# Altium integrated library WL-SMDC Ceramic mono-color High-power LED waterclear.IntLib: 8 symbols
Pins are listed as number, name and electrical type; pins without a type are passive.

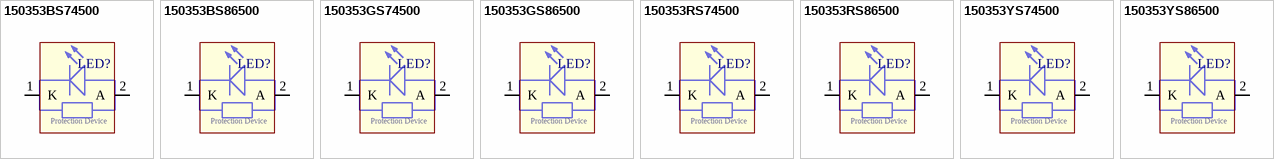
[diagram p0: symbols 150353BS74500 to 150353YS86500]

## 150353BS74500
designator LED?
SMD Ceramic mono-color High-power LED waterclear, WL-SMDC; PartNumber: 150353BS74500; Emitting Color: Blue; Forward voltage (Typ): 3.2V; Reverse Voltage: 5V; Continuous Forward Current: 1000 mA; PackageReference: WL-SMDC 3535 -LP; ComponentLink1Description: Manufacturer URL; ComponentLink1URL: http://www.we-online.com; ComponentLink2Description: Datasheet; ComponentLink2URL: http://katalog.we-online.de/kataloge/eisos/media/pdf/150353BS74500.pdf
footprint WL-SMDC 3535 -LP (LED-SMD ,Body 3.45x3.45mm)
pins: 1 K, 2 A
text: Protection Device

## 150353BS86500
designator LED?
SMD Ceramic mono-color High-power LED waterclear, WL-SMDC; PartNumber: 150353BS86500; Emitting Color: Blue; Forward voltage (Typ): 3.2V; Reverse Voltage: 5V; Continuous Forward Current: 1000 mA; PackageReference: WL-SMDC 3535; ComponentLink1Description: Manufacturer URL; ComponentLink1URL: http://www.we-online.com; ComponentLink2Description: Datasheet; ComponentLink2URL: http://katalog.we-online.de/kataloge/eisos/media/pdf/150353BS86500.pdf
footprint WL-SMDC 3535 (LED-SMD ,Body 3.45x3.45mm)
pins: 1 K, 2 A
text: Protection Device

## 150353GS74500
designator LED?
SMD Ceramic mono-color High-power LED waterclear, WL-SMDC; PartNumber: 150353GS74500; Emitting Color: Green; Forward voltage (Typ): 3.4V; Reverse Voltage: 5V; Continuous Forward Current: 1000 mA; PackageReference: WL-SMDC 3535 -LP; ComponentLink1Description: Manufacturer URL; ComponentLink1URL: http://www.we-online.com; ComponentLink2Description: Datasheet; ComponentLink2URL: http://katalog.we-online.de/kataloge/eisos/media/pdf/150353GS74500.pdf
footprint WL-SMDC 3535 -LP (LED-SMD ,Body 3.45x3.45mm)
pins: 1 K, 2 A
text: Protection Device

## 150353GS86500
designator LED?
SMD Ceramic mono-color High-power LED waterclear, WL-SMDC; PartNumber: 150353GS86500; Emitting Color: Green; Forward voltage (Typ): 3.4V; Reverse Voltage: 5V; Continuous Forward Current: 1000 mA; PackageReference: WL-SMDC 3535; ComponentLink1Description: Manufacturer URL; ComponentLink1URL: http://www.we-online.com; ComponentLink2Description: Datasheet; ComponentLink2URL: http://katalog.we-online.de/kataloge/eisos/media/pdf/150353GS86500.pdf
footprint WL-SMDC 3535 (LED-SMD ,Body 3.45x3.45mm)
pins: 1 K, 2 A
text: Protection Device

## 150353RS74500
designator LED?
SMD Ceramic mono-color High-power LED waterclear, WL-SMDC; PartNumber: 150353RS74500; Emitting Color: Red; Forward voltage (Typ): 2.2V; Reverse Voltage: 5V; Continuous Forward Current: 700 mA; PackageReference: WL-SMDC 3535 -LP; ComponentLink1Description: Manufacturer URL; ComponentLink1URL: http://www.we-online.com; ComponentLink2Description: Datasheet; ComponentLink2URL: http://katalog.we-online.de/kataloge/eisos/media/pdf/150353RS74500.pdf
footprint WL-SMDC 3535 -LP (LED-SMD ,Body 3.45x3.45mm)
pins: 1 K, 2 A
text: Protection Device

## 150353RS86500
designator LED?
SMD Ceramic mono-color High-power LED waterclear, WL-SMDC; PartNumber: 150353RS86500; Emitting Color: Red; Forward voltage (Typ): 2.2V; Reverse Voltage: 5V; Continuous Forward Current: 700 mA; PackageReference: WL-SMDC 3535; ComponentLink1Description: Manufacturer URL; ComponentLink1URL: http://www.we-online.com; ComponentLink2Description: Datasheet; ComponentLink2URL: http://katalog.we-online.de/kataloge/eisos/media/pdf/150353RS86500.pdf
footprint WL-SMDC 3535 (LED-SMD ,Body 3.45x3.45mm)
pins: 1 K, 2 A
text: Protection Device

## 150353YS74500
designator LED?
SMD Ceramic mono-color High-power LED waterclear, WL-SMDC; PartNumber: 150353YS74500; Emitting Color: Yellow; Forward voltage (Typ): 2.2V; Reverse Voltage: 5V; Continuous Forward Current: 700 mA; PackageReference: WL-SMDC 3535 -LP; ComponentLink1Description: Manufacturer URL; ComponentLink1URL: http://www.we-online.com; ComponentLink2Description: Datasheet; ComponentLink2URL: http://katalog.we-online.de/kataloge/eisos/media/pdf/150353YS74500.pdf
footprint WL-SMDC 3535 -LP (LED-SMD ,Body 3.45x3.45mm)
pins: 1 K, 2 A
text: Protection Device

## 150353YS86500
designator LED?
SMD Ceramic mono-color High-power LED waterclear, WL-SMDC; PartNumber: 150353YS86500; Emitting Color: Yellow; Forward voltage (Typ): 2.2V; Reverse Voltage: 5V; Continuous Forward Current: 700 mA; PackageReference: WL-SMDC 3535; ComponentLink1Description: Manufacturer URL; ComponentLink1URL: http://www.we-online.com; ComponentLink2Description: Datasheet; ComponentLink2URL: http://katalog.we-online.de/kataloge/eisos/media/pdf/150353YS86500.pdf
footprint WL-SMDC 3535 (LED-SMD ,Body 3.45x3.45mm)
pins: 1 K, 2 A
text: Protection Device